# Altium footprint library PcbLib1.PcbLib: 19 footprints (part 1 of 2)
Each footprint in its own frame and in the unit in brackets; x right, y up, seen from the top. Pads: shape width x height; smd on the part's side, far side on the other; paste and mask are expansions set on the pad; w line width, h text height; cw(c..) or ccw(c..) is an arc to the next point about the centre after c.
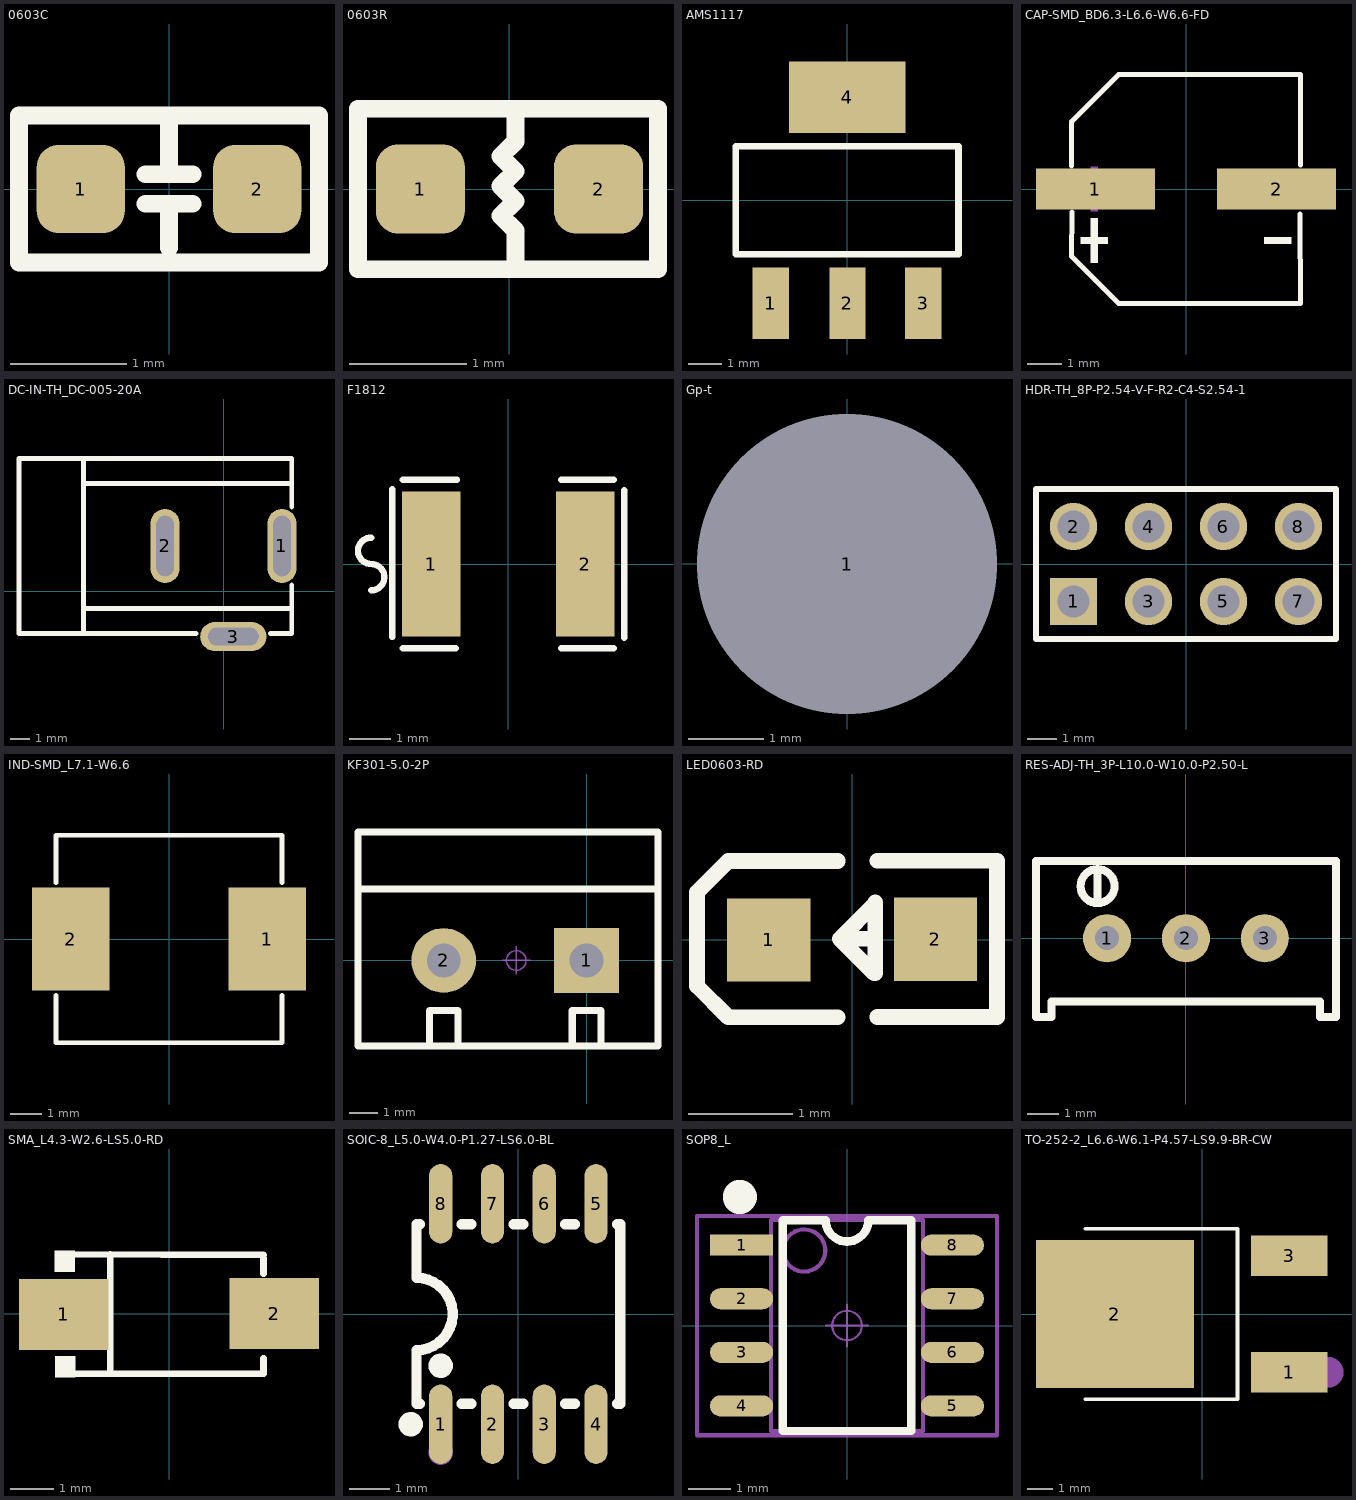
[diagram p0: the footprints below, top view; thin cyan lines are the x and y axes]

## 0603C [mil]
height 393.7
pads (2):
  rrect50% 30x30 smd: 1(-30,0) 2(30,0)
Top Overlay:
  lines w6: -8,-5 8,-5 ; -8,5 8,5 ; 0,-20 0,-5 ; 0,5 0,23 ; -51,-25 51,-25 51,25 -51,25 -51,-25
3D body "C 0603.STEP": height 32.89, standoff 0.61, extent -35.9,-16.13 27.09,16.15

## 0603R [mil]
pads (2):
  rrect50% 30x30 smd: 1(-30,0) 2(30,0)
Top Overlay:
  lines w6: 2,-26 2,-14 -3,-9 2,-4 -3,1 2,6 -3,11 2,16 2,17.25 2,27 ; -51,-27 50,-27 50,27 -51,27 -51,-27
3D body "R0603.STEP": height 15.79, standoff 0, extent -35.9,-15.74 27.1,15.76

## AMS1117 [mil]
height 169.29
pads (4):
  rect 43x85 smd: 1(-90.5,-122) 2(0.5,-122) 3(90.5,-122)
  rect 138x85 smd: 4(0.5,122)
Top Overlay:
  lines w7.9: -131.7,-64.1 132.1,-64.1 132.1,63.8 -131.7,63.8 -131.7,-64.1
3D body "SOT223.STEP": height 64.96, standoff -0.74, extent -125.48,-132.25 130.43,143.98

## CAP-SMD_BD6.3-L6.6-W6.6-FD [mm]
pads (2):
  rect 3.5x1.2 smd: 1(-2.67,0) 2(2.67,0)
Top Overlay:
  region: -2.805,-0.858 -2.805,-2.178 -2.607,-2.178 -2.607,-0.858
  region: -3.102,-1.419 -3.102,-1.617 -2.31,-1.617 -2.31,-1.419
  region: 3.102,-1.419 3.102,-1.617 2.31,-1.617 2.31,-1.419
  lines w0.152: -3.376,0.686 -3.376,1.98 -1.98,3.376 3.376,3.376 3.369,0.708 ; -3.362,-0.686 -3.376,-1.981 -1.981,-3.376 3.376,-3.376 3.356,-0.739
Mechanical 15:
  region: -2.805,0.66 -2.805,-0.66 -2.607,-0.66 -2.607,0.66
  region: -3.102,0.099 -3.102,-0.099 -2.31,-0.099 -2.31,0.099
  region: 3.102,0.099 3.102,-0.099 2.31,-0.099 2.31,0.099
3D body "CM D(6.3X5.4).STEP": height 5.4, standoff -0.01, extent -3.83,-3.3 3.17,3.3

## DC-IN-TH_DC-005-20A [mm]
pads (3):
  oval 1.5x3.8 hole 0.9 slot 3.1 at 90 deg: 1(3.001,2.325) 2(-2.999,2.325)
  oval 3.4x1.5 hole 0.9 slot 2.6 at 0 deg: 3(0.5,-2.325)
Top Overlay:
  lines w0.254: -7.2,-2.175 -7.2,6.825 ; -7.12,-0.874 3.5,-0.874 ; -7.12,5.525 3.5,5.525 ; -1.419,-2.175 -10.5,-2.175 -10.5,6.825 3.5,6.825 3.5,4.319 ; 2.42,-2.175 3.5,-2.175 3.5,0.332
3D body "dc-005.STEP": height 11.2, standoff -3.8, extent -10.5,-2.425 3.55,6.875

## F1812 [mm]
pads (2):
  rect 1.407x3.499 smd: 1(-1.853,0) 2(1.853,0)
Top Overlay:
  lines w0.152: -3.302,-0.635 ccw(c-3.302,-0.318) -3.302,0 cw(c-3.302,0.318) -3.302,0.635 ; -2.794,-1.758 -2.794,1.798 ; -2.54,-2.032 -1.27,-2.032 ; -2.54,2.032 -1.235,2.032 ; 1.27,-2.032 2.54,-2.032 ; 1.27,2.032 2.54,2.032 ; 2.794,-1.778 2.794,1.778
Top Paste:
  region: -1.15,-1.65 -1.15,-0.695 -1.25,-0.595 -1.528,-0.595 -1.628,-0.495 -1.628,0.495 -1.528,0.595 -1.25,0.595 -1.15,0.695 -1.15,1.65 -1.25,1.75 -2.457,1.75 -2.557,1.65 -2.557,-1.65 -2.457,-1.75 -1.25,-1.75
  region: 1.15,-1.65 1.15,-0.695 1.25,-0.595 1.528,-0.595 1.628,-0.495 1.628,0.495 1.528,0.595 1.25,0.595 1.15,0.695 1.15,1.65 1.25,1.75 2.457,1.75 2.557,1.65 2.557,-1.65 2.457,-1.75 1.25,-1.75
3D body "FU 01812.STEP": height 0.87, standoff 0, extent -2.747,-1.61 1.853,1.61

## Gp-t [mil] "定位孔"
pads (1):
  rect 70x70 hole 157.48: 1(0,0)

## HDR-TH_8P-P2.54-V-F-R2-C4-S2.54-1 [mm]
pads (8):
  rect 1.6x1.6 hole 1.1: 1(-3.81,-1.27)
  round 1.6 hole 1.1: 2(-3.81,1.27) 3(-1.27,-1.27) 4(-1.27,1.27) 5(1.27,-1.27) 6(1.27,1.27) 7(3.81,-1.27) 8(3.81,1.27)
Top Overlay:
  lines w0.203: -5.08,-2.54 -5.08,2.54 5.08,2.54 5.08,-2.54 -5.08,-2.54
3D body "HDR-1x2_H.STEP": height 5.1, standoff -3, extent 0,-1.62 2.54,11.23
3D body "HDR-1x2_H.STEP": height 5.1, standoff -3, extent 2.54,-1.62 5.08,11.23
3D body "HDR-1x2_H.STEP": height 5.1, standoff -3, extent -5.08,-1.62 -2.54,11.23
3D body "HDR-1x2_H.STEP": height 5.1, standoff -3, extent -2.54,-1.62 0,11.23

## IND-SMD_L7.1-W6.6 [mm]
pads (2):
  rect 2.474x3.32 smd: 1(3.153,0) 2(-3.153,0)
Top Overlay:
  lines w0.152: -3.626,-1.812 -3.626,-3.326 3.626,-3.326 3.626,-1.812 ; -3.626,1.812 -3.626,3.326 3.626,3.326 3.626,1.812
3D body "SMD-0630.STEP": height 3.05, standoff 0.02, extent -3.497,-3.3 3.453,3.3

## KF301-5.0-2P [mm] "可拼接端子/6A"
pads (2):
  rect 2.3x2.3 hole 1.2: 1(0,0)
  round 2.3 hole 1.2: 2(-5.08,0)
Top Overlay:
  lines w0.254: -8.128,2.54 2.54,2.54 ; -5.588,-3.048 -5.588,-1.778 -4.572,-1.778 -4.572,-3.048 ; -0.508,-3.048 -0.508,-1.778 0.508,-1.778 0.508,-3.048 ; -8.128,-3.048 -8.128,4.572 2.54,4.572 2.54,-3.048 -8.128,-3.048
Mechanical 15:
  circle w0.05: c-2.5,0 r0.35
  lines w0.05: -3,0 -2,0 ; -2.5,-0.5 -2.5,0.5
3D body "KF301.STEP": height 10.05, standoff -3.75, extent -7.95,-3 -2.45,4.6
3D body "KF301.STEP": height 10.05, standoff -3.75, extent -2.95,-3 2.55,4.6

## LED0603-RD [mm]
pads (2):
  rect 0.8x0.8 smd: 1(-0.799,-0.003) 2(0.799,0.004)
Top Overlay:
  lines w0.15: -0.14,-0.746 -1.19,-0.746 -1.49,-0.446 -1.49,-0.346 -1.49,0.354 -1.49,0.454 -1.19,0.754 -0.14,0.754 ; 0.22,0.007 -0.12,0.007 ; 0.24,-0.744 1.39,-0.744 ; 0.24,0.757 1.39,0.757 1.39,-0.723 ; -0.12,0.007 0.22,0.347 0.22,0.357 0.22,-0.324 0.21,-0.324 -0.12,0.007
Mechanical 15:
  region: 0.529,0.068 1.069,0.068 1.069,-0.062 0.529,-0.062
  region: 0.735,-0.267 0.735,0.273 0.865,0.273 0.865,-0.267
  region: -1.07,0.062 -0.53,0.062 -0.53,-0.068 -1.07,-0.068
3D body "LED_0603-G(1).STEP": height 0.47, standoff 0, extent -0.777,-0.397 0.823,0.405
3D body "LED 0603玻璃罩.STEP": height 0.61, standoff 0.21, extent -0.577,-0.396 0.623,0.404

## RES-ADJ-TH_3P-L10.0-W10.0-P2.50-L [mil]
pads (3):
  round 60 hole 30: 1(-98.42,0) 2(0,0) 3(98.42,0)
Top Overlay:
  lines w10: -110.39,50 -110.39,65 ; -110.4,86.2 ccw(c-110.19,64.99) -109.99,86.2 ; 187.01,96.46 -187.01,96.46 -187.01,-96.46 -187.01,-98.42 -167.52,-98.42 -167.52,-78.74 167.52,-78.74 167.52,-98.42 187.22,-98.42 187.22,-96.46 187.22,96.46 ; -110.39,65 -110.39,80 -110.39,65
3D body "3296.STEP": height 453.54, standoff -137.01, extent -185.43,-94.49 188.59,94.49

## SMA_L4.3-W2.6-LS5.0-RD [mm]
pads (2):
  rect 2.046x1.62 smd: 1(-2.404,-0.009) 2(2.404,0.009)
Top Overlay:
  region: -2.158,1.44 -2.158,0.962 -2.615,0.962 -2.615,1.44
  region: -2.145,-1.44 -2.145,-0.962 -2.602,-0.962 -2.602,-1.44
  lines w0.152: -2.526,1.364 2.159,1.346 ; -2.504,-1.364 2.165,-1.364 ; -1.339,-1.364 -1.339,1.364 ; 2.159,-1.364 2.159,-1.013 ; 2.159,0.919 2.159,1.27
Mechanical 15:
  region: -2.432,-0.097 -2.432,0.097 -1.659,0.097 -1.659,-0.097
  region: 2.432,-0.097 2.432,0.097 1.659,0.097 1.659,-0.097
  region: 2.142,-0.644 2.142,0.644 1.949,0.644 1.949,-0.644
3D body "SMA.stp": height 2.15, standoff 0.05, extent -2.656,-1.309 2.448,1.291

## SOIC-8_L5.0-W4.0-P1.27-LS6.0-BL [mil]
pads (8):
  oval 22.38x76.78 smd: 1(-75,-106.5) 2(-25,-106.5) 3(25,-106.5) 4(75,-106.5) 5(75,106.5) 6(25,106.5) 7(-25,106.5) 8(-75,106.5)
Top Overlay:
  circle w11.81: c-104,-106.5 r5.91
  circle w11.81: c-75,-50 r5.91
  lines w10: -98.43,-35 ccw(c-98.41,0) -98.4,35 -98.42,86.61 -95.29,86.61 ; -98.42,-35 -98.42,-86.61 -95.29,-86.61 ; -54.71,-86.61 -45.29,-86.61 ; -54.71,86.61 -45.29,86.61 ; -4.71,-86.61 4.71,-86.61 ; -4.71,86.61 4.71,86.61 ; 45.29,-86.61 54.71,-86.61 ; 45.29,86.61 54.71,86.61 ; 95.29,-86.61 98.42,-86.61 98.42,86.61 95.29,86.61
Mechanical 15:
  circle w11.81: c-75,-133.86 r5.91
3D body "SOP8.STEP": height 74.8, standoff 0.03, extent -98.43,-118.22 98.43,118.22

## SOP8_L [mm] "5*6*1.8mm（长宽高）封装库来自淘宝卖家 ID：黄晶宝石"
height 1.75
pads (8):
  rect 1.5x0.5 smd: 1(-2.5,1.905)
  oval 1.5x0.5 smd: 2(-2.5,0.635) 3(-2.5,-0.635) 4(-2.5,-1.905) 5(2.5,-1.905) 6(2.5,-0.635) 7(2.5,0.635) 8(2.5,1.905)
Top Overlay:
  circle w0.5: c-2.54,3.048 r0.155
  lines w0.2: -1.524,2.5 -1.524,-2.5 1.524,-2.5 1.524,2.5
  lines w0.203: -1.524,2.5 -0.508,2.5 ccw(c0,2.5) 0,1.992 ccw(c0,2.5) 0.508,2.5 1.524,2.5
Mechanical 13:
  circle w0.1: c-1.016,1.778 r0.5
  lines w0.1: -1.8,-2.5 1.8,-2.5 1.8,2.5 -1.8,2.5 -1.8,-2.5
Mechanical 15:
  circle w0.05: c0,0 r0.35
  lines w0.05: -0.5,0 0.5,0 ; 0,-0.5 0,0.5
  lines w0.1: -3.556,-2.6 3.556,-2.6 3.556,2.6 -3.556,2.6 -3.556,-2.6
3D body "SOP8.STEP": height 1.9, standoff 0, extent -3.003,-2.5 3.003,2.5

## TO-252-2_L6.6-W6.1-P4.57-LS9.9-BR-CW [mm]
pads (3):
  rect 3x1.6 smd: 1(3.423,-2.29) 3(3.424,2.29)
  rect 6.2x5.8 smd: 2(-3.424,0)
Top Overlay:
  lines w0.152: -4.585,-3.346 1.383,-3.346 1.383,3.346 -4.585,3.346
Mechanical 15:
  circle w0.6: c4.953,-2.286 r0.3
3D body "DPAK_TO-252AA.STEP": height 2.5, standoff 0.1, extent -5.893,-3.367 4.207,3.367